# Altium footprint library F主板_V0.PcbLib: 63 footprints (part 1 of 4)
Each footprint in its own frame and in the unit in brackets; x right, y up, seen from the top. Pads: shape width x height; smd on the part's side, far side on the other; paste and mask are expansions set on the pad; w line width, h text height; cw(c..) or ccw(c..) is an arc to the next point about the centre after c.
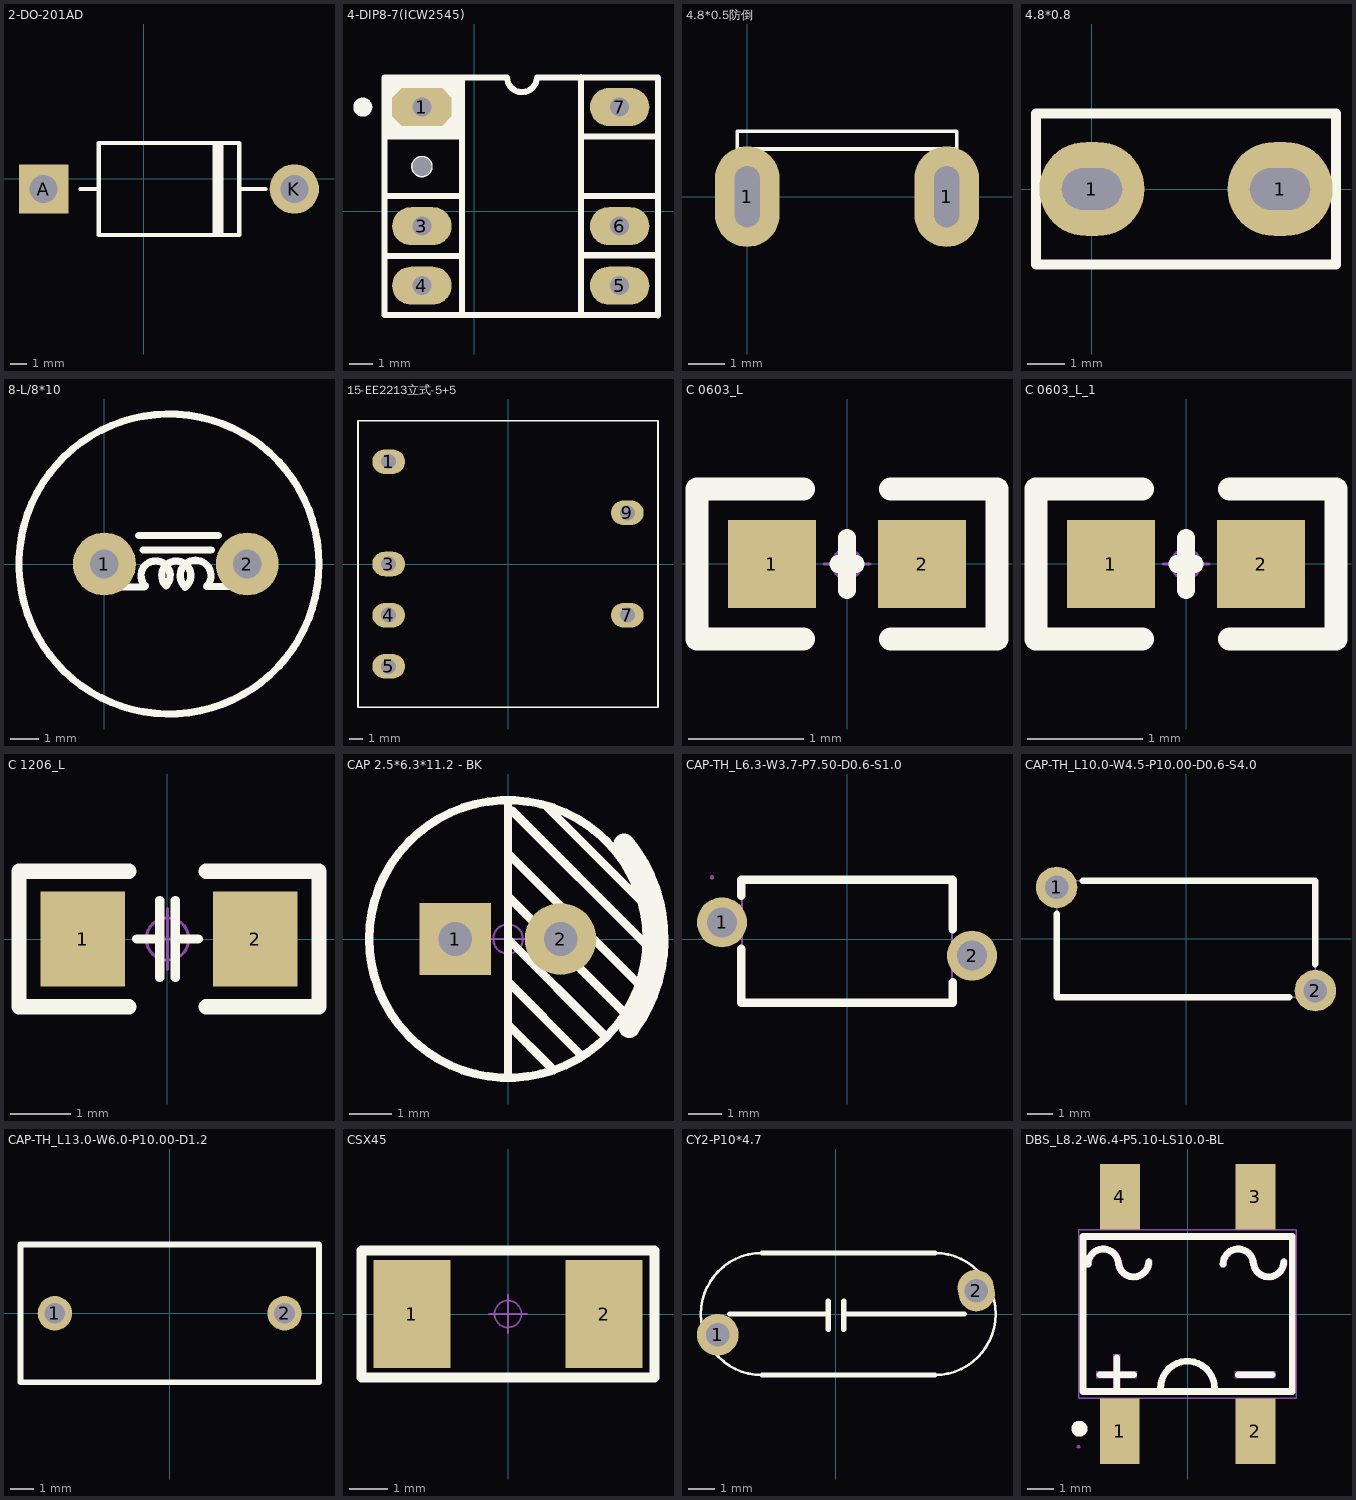
[diagram p0: the footprints below, top view; thin cyan lines are the x and y axes]

## 2-DO-201AD [mm]
pads (2):
  rect 3x3 hole 1.7 mask+0.051: A(-6.096,-0.635)
  round 3 hole 1.7 mask+0.051: K(9.144,-0.635)
Top Overlay:
  lines w0.254: -3.864,-0.635 -2.764,-0.635 ; -2.744,-3.435 -2.744,2.165 ; -2.704,-3.435 5.796,-3.435 5.796,2.165 -2.704,2.165 ; 4.296,-3.435 4.296,2.165 ; 4.496,-3.435 4.496,2.165 ; 4.696,-3.435 4.696,2.165 ; 5.796,-0.635 7.396,-0.635

## 4-DIP8-7(ICW2545) [mm]
pads (7):
  oct 2.5x1.6 hole 0.8: 1(-2.204,4.365)
  round 0 hole 0.8: 2(-2.204,1.865)
  oval 2.5x1.6 hole 0.8: 3(-2.204,-0.635) 4(-2.204,-3.135) 5(6.096,-3.135) 6(6.096,-0.635) 7(6.096,4.365)
Top Overlay:
  circle w0.45: c6.096,-3.135 r0.225
  circle w0.45: c-2.204,-3.135 r0.225
  circle w0.45: c6.096,4.365 r0.225
  circle w0.45: c6.096,-0.635 r0.225
  circle w0.45: c-2.204,4.365 r0.225
  circle w0.45: c-2.204,1.865 r0.225
  circle w0.4: c-4.689,4.365 r0.2
  rectangle: -3.779,3.155 -0.528,5.61
  lines w0.215: 1.316,5.61 1.321,5.615 ; 7.703,5.615 7.709,5.61
  lines w0.254: -3.779,0.631 -0.528,0.631 ; -3.753,-1.883 -0.528,-1.883 ; -3.753,3.12 -0.578,3.12 ; -0.528,-4.373 -0.528,5.61 ; 1.316,5.61 -3.779,5.61 -3.779,-4.373 7.696,-4.373 7.709,-4.36 ; 1.371,5.615 ccw(c1.996,5.615) 2.621,5.615 7.703,5.615 ; 4.483,-4.373 4.483,5.627 ; 4.483,-1.858 7.709,-1.858 ; 4.483,0.631 7.709,0.631 ; 4.483,3.12 7.709,3.12 ; 7.709,-4.39 7.709,5.61
Bottom Overlay:
  lines w0.254: -3.232,-1.883 -0.895,-1.883 ; -3.232,0.631 -0.895,0.631 ; -3.232,3.12 -0.895,3.12 ; 4.962,-1.863 7.299,-1.863 ; 4.962,0.626 7.299,0.626 ; 4.962,3.115 7.299,3.115

## 4.8*0.5防倒 [mm]
pads (2):
  oval 1.8x2.8 hole 0.7 slot 1.7 at 90 deg: 1(0,0) 1(5.55,0)
Top Overlay:
  lines w0.1: -0.275,1.325 5.825,1.325 5.825,1.825 -0.275,1.825 -0.275,1.325

## 4.8*0.8 [mm]
pads (2):
  oval 2.8x2.5 hole 1.1 slot 1.6 at 0 deg: 1(0,0) 1(5,0)
Top Overlay:
  lines w0.254: -1.488,-2.007 6.488,-2.007 6.488,2.007 -1.488,2.007 -1.488,-2.007

## 8-L/8*10 [mm]
pads (2):
  round 2.2 hole 1: 1(0,0) 2(5,0)
Top Overlay:
  circle w0.254: c2.261,0 r5.25
  lines w0.254: 0.593,-0.805 1.393,-0.805 ; 1.193,0.995 3.893,0.995 3.993,0.995 ; 1.353,0.49 3.752,0.49 ; 1.432,-0.766 cw(c1.793,-0.405) 2.154,-0.766 ; 2.109,-0.711 cw(c2.517,-0.405) 2.823,-0.813 ; 2.817,-0.792 cw(c3.191,-0.405) 3.572,-0.786 ; 3.674,-0.786 4.512,-0.786

## 15-EE2213立式-5+5 [mm]
pads (10):
  oval 2.4x1.8 hole 1.1: 1(-8.75,7.5) 3(-8.75,0) 5(-8.75,-7.5) 9(8.75,3.75)
  round 0 all layers, no hole: 2(-8.75,3.75) 6(8.75,-7.5) 8(8.75,0) 10(8.75,7.5)
  oval 2.4x1.8 hole 1.1 paste+0: 4(-8.75,-3.75) 7(8.75,-3.75)
Top Overlay:
  lines w0.127: -11,-10.5 -11,10.5 11,10.5 11,-10.5 -11,-10.5

## C 0603_L [mil] "无极性贴片电容"
height 19.68
pads (2):
  rect 30x30 smd: 1(-25.59,0) 2(25.59,0)
Top Overlay:
  lines w6: -3,0 0,0 3,0 ; 0,-9 0,9
  lines w8: -15,-25.59 -51.18,-25.59 -51.18,25.59 -15,25.59 ; 15,-25.59 51.18,-25.59 51.18,25.59 15,25.59
Mechanical 15:
  circle w1: c0,0 r5
  lines w1: -7.87,0 7.87,0 ; 0,-7.87 0,7.87
3D body "C 0603.STEP": height 31.89, standoff -0.39, extent -31.5,-16.14 31.5,16.14

## C 0603_L_1 [mil] "无极性贴片电容"
height 19.68
pads (2):
  rect 30x30 smd: 1(-25.59,0) 2(25.59,0)
Top Overlay:
  lines w6: -3,0 0,0 3,0 ; 0,-9 0,9
  lines w8: -15,-25.59 -51.18,-25.59 -51.18,25.59 -15,25.59 ; 15,-25.59 51.18,-25.59 51.18,25.59 15,25.59
Mechanical 15:
  circle w1: c0,0 r5
  lines w1: -7.87,0 7.87,0 ; 0,-7.87 0,7.87
3D body "C 0603.STEP": height 31.89, standoff -0.39, extent -31.5,-16.14 31.5,16.14

## C 1206_L [mil] "无极性贴片电容"
height 19.68
pads (2):
  rect 55x62 smd: 1(-55.12,0) 2(57.09,0)
Top Overlay:
  lines w6: -20,0 -5,0 ; -5,-25 -5,25 ; 5,-25 5,25 ; 5,0 20,0
  lines w10: -25,-44 -96.46,-44 -96.46,44 -25,44 ; 25,-44 96.46,-44 ; 25,44 96.46,44 ; 98.43,-44 98.43,44
Mechanical 15:
  circle w1.97: c0,0 r13.78
  lines w1.97: -19.68,0 19.68,0 ; 0,-19.68 0,19.68
3D body "C 1206.STEP": height 47.64, standoff -0.39, extent -62.99,-31.89 62.99,31.89

## CAP 2.5*6.3*11.2 - BK [mm] "脚距2.5mm直径6.3mm高度11.2mm"
height 0.5
pads (2):
  rect 1.7x1.7 hole 0.8: 1(-1.25,0)
  round 1.7 hole 0.8: 2(1.25,0)
Top Overlay:
  circle w0.2: c0,0 r3.3
  lines w0.2: 0,-3.226 0,3.277 ; 0,-2.032 1.016,-3.048 ; 0,-1.016 1.727,-2.743 ; 0,0 2.299,-2.299 ; 0,1.016 2.769,-1.753 2.87,-1.753 ; 0,2.032 3.099,-1.067 ; 0,3.048 0.102,3.048 3.302,-0.152 ; 0.927,3.137 3.124,0.94 3.2,0.94
  lines w0.504: 2.759,2.258 cw(c0,0) 2.883,-2.097
Mechanical 15:
  circle w0.05: c0,0 r0.35
  lines w0.05: -0.5,0 0.5,0 ; 0,-0.5 0,0.5
3D body "CAP 2.5X6.3X11.2.STEP": height 11.24, standoff -3.37, extent -3.15,-3.15 3.16,3.15

## CAP-TH_L6.3-W3.7-P7.50-D0.6-S1.0 [mm]
pads (2):
  round 1.5 hole 0.9 paste+0 mask+0.05: 1(-3.75,0.5) 2(3.75,-0.5)
Top Overlay:
  lines w0.254: -3.175,-0.294 -3.175,-1.905 3.175,-1.905 3.175,-1.294 ; -3.175,1.295 -3.175,1.778 3.175,1.778 3.175,0.295
Mechanical 15:
  region: -3.99,1.85 -3.991,1.874 -4.026,1.908 -4.074,1.908 -4.109,1.874 -4.11,1.85 -4.109,1.826 -4.074,1.792 -4.026,1.792 -3.991,1.826
  region: -3.45,0.5 -3.45,0.56 -3.496,0.67 -3.58,0.754 -3.69,0.8 -3.81,0.8 -3.92,0.754 -4.005,0.67 -4.05,0.56 -4.05,0.5 -4.05,0.44 -4.005,0.33 -3.92,0.246 -3.81,0.2 -3.69,0.2 -3.58,0.246 -3.496,0.33 -3.45,0.44
  region: 4.05,-0.5 4.05,-0.44 4.004,-0.33 3.92,-0.246 3.81,-0.2 3.69,-0.2 3.58,-0.246 3.496,-0.33 3.45,-0.44 3.45,-0.5 3.45,-0.56 3.496,-0.67 3.58,-0.754 3.69,-0.8 3.81,-0.8 3.92,-0.754 4.004,-0.67 4.05,-0.56
  region: 4.05,-0.8 4.05,-0.2 3.11,-0.2 3.11,-0.8
  region: -4.05,0.8 -4.05,0.2 -3.11,0.2 -3.11,0.8
  lines w0.051: -3.15,-1.85 -3.15,1.85 3.15,1.85 3.15,-1.85 -3.15,-1.85

## CAP-TH_L10.0-W4.5-P10.00-D0.6-S4.0 [mm]
pads (2):
  round 1.6 hole 0.9: 1(-5,2) 2(5,-2)
Top Overlay:
  lines w0.254: -5,0.469 -5,0.969 -5,-2.25 4,-2.25 ; -4,2.25 5,2.25 5,-0.469 5,-0.969
Mechanical 15:
  region: -4.725,2 -4.725,2.055 -4.767,2.156 -4.844,2.233 -4.945,2.275 -5.055,2.275 -5.156,2.233 -5.233,2.156 -5.275,2.055 -5.275,2 -5.275,1.945 -5.233,1.844 -5.156,1.767 -5.055,1.725 -4.945,1.725 -4.844,1.767 -4.767,1.844 -4.725,1.945
  region: 5.275,-2 5.275,-1.945 5.233,-1.844 5.156,-1.767 5.055,-1.725 4.945,-1.725 4.844,-1.767 4.767,-1.844 4.725,-1.945 4.725,-2 4.725,-2.055 4.767,-2.156 4.844,-2.233 4.945,-2.275 5.055,-2.275 5.156,-2.233 5.233,-2.156 5.275,-2.055
  region: -5.215,2.275 -5.215,2.3 -5.25,2.335 -5.3,2.335 -5.335,2.3 -5.335,2.275 -5.335,2.25 -5.3,2.215 -5.25,2.215 -5.215,2.25
  lines w0.051: -5,-2.25 5,-2.25 5,2.25 -5,2.25 -5,-2.25

## CAP-TH_L13.0-W6.0-P10.00-D1.2 [mm]
pads (2):
  round 1.5 hole 0.9: 1(-5,0) 2(5,0)
Top Overlay:
  lines w0.254: -6.5,-3 6.5,-3 6.5,3 -6.5,3 -6.5,-3
Mechanical 15:
  region: -6.44,-3 -6.44,-2.975 -6.475,-2.94 -6.525,-2.94 -6.56,-2.975 -6.56,-3 -6.56,-3.025 -6.525,-3.06 -6.475,-3.06 -6.44,-3.025
  region: 5.3,0 5.299,0.059 5.252,0.167 5.168,0.25 5.059,0.294 4.941,0.294 4.832,0.25 4.748,0.167 4.701,0.059 4.7,0 4.701,-0.059 4.748,-0.167 4.832,-0.25 4.941,-0.294 5.059,-0.294 5.168,-0.25 5.252,-0.167 5.299,-0.059
  region: -4.7,0 -4.701,0.059 -4.748,0.167 -4.832,0.25 -4.941,0.294 -5.059,0.294 -5.168,0.25 -5.252,0.167 -5.299,0.059 -5.3,0 -5.299,-0.059 -5.252,-0.167 -5.168,-0.25 -5.059,-0.294 -4.941,-0.294 -4.832,-0.25 -4.748,-0.167 -4.701,-0.059
  lines w0.051: -6.5,-3 -6.5,3 6.5,3 6.5,-3 -6.5,-3

## CSX45 [mm] "1/4W贴片电阻"
height 0.5
pads (2):
  rect 2x2.8 smd: 1(-2.5,0) 2(2.5,0)
Top Overlay:
  lines w0.254: -3.81,-1.651 -3.81,1.651 3.81,1.651 3.81,-1.651 -3.81,-1.651
Mechanical 15:
  circle w0.05: c0,0 r0.35
  lines w0.05: -0.5,0 0.5,0 ; 0,-0.5 0,0.5
3D body "R 1206.STEP": height 0.55, standoff -0.01, extent -1.6,-0.8 1.6,0.8

## CY2-P10*4.7 [mm]
pads (2):
  round 1.6 hole 0.9: 1(-4.55,-0.8)
  oval 1.4x1.6 hole 0.9 rot 10: 2(5.4,0.9)
Top Overlay:
  lines w0.1: -2.85,-2.35 cw(c-2.85,0) -2.85,2.35 ; 3.8,-2.35 ccw(c3.8,0) 3.8,2.35
  lines w0.2: -4.1,0 -0.3,0 ; -2.85,-2.35 3.8,-2.35 ; -2.85,2.35 3.8,2.35 ; -0.3,-0.6 -0.3,0.5 ; 0.3,-0.6 0.3,0.5 ; 0.3,0 4.95,0

## DBS_L8.2-W6.4-P5.10-LS10.0-BL [mm]
pads (4):
  rect 1.505x2.47 smd: 1(-2.55,-4.41) 2(2.55,-4.41) 3(2.55,4.41) 4(-2.55,4.41)
Top Overlay:
  circle w0.3: c-4.064,-4.318 r0.15
  lines w0.254: -3.747,1.873 cw(c-3.175,1.873) -2.604,1.873 ; -3.302,-2.286 -2.032,-2.286 ; -2.667,-2.921 -2.667,-1.651 ; -2.604,1.968 ccw(c-2.032,1.968) -1.461,1.968 ; -1.016,-2.794 cw(c0,-2.794) 1.016,-2.794 ; 1.333,1.873 cw(c1.905,1.873) 2.476,1.873 ; 1.905,-2.286 3.175,-2.286 ; 2.476,1.968 ccw(c3.048,1.968) 3.619,1.968 ; -3.937,-2.921 -3.937,2.921 3.937,2.921 3.937,-2.921 -3.937,-2.921
Mechanical 6:
  drawing of 5 lines, arcs and shapes, not listed
Mechanical 15:
  region: 3.087,5 3.087,4.125 2.012,4.125 2.012,5
  region: 3.087,4.135 3.087,3.165 2.012,3.165 2.012,4.135
  region: -2.012,5 -2.012,4.125 -3.087,4.125 -3.087,5
  region: -2.012,4.135 -2.012,3.165 -3.087,3.165 -3.087,4.135
  region: 3.087,-5 3.087,-4.125 2.012,-4.125 2.012,-5
  region: 3.087,-4.135 3.087,-3.165 2.012,-3.165 2.012,-4.135
  region: -2.012,-5 -2.012,-4.125 -3.087,-4.125 -3.087,-5
  region: -2.012,-4.135 -2.012,-3.165 -3.087,-3.165 -3.087,-4.135
  region: -4.04,-5 -4.041,-4.976 -4.076,-4.941 -4.125,-4.941 -4.16,-4.976 -4.16,-5 -4.159,-5.025 -4.125,-5.059 -4.076,-5.059 -4.041,-5.024
  lines w0.051: -4.1,-3.175 -4.1,3.175 4.1,3.175 4.1,-3.175 -4.1,-3.175